# Altium schematic symbol library AK4619VN.SchLib: 1 symbol
Pins are listed as number, name and electrical type; pins without a type are passive.

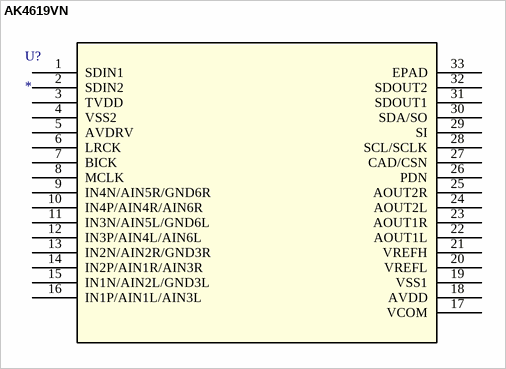
[diagram p0: symbol AK4619VN]

## AK4619VN
designator U?
No Description Available; Mfr_Name: AKM; RefDes: RefDes; Type: Type
footprint AK4619VN_AKM
pins: 1 SDIN1, 2 SDIN2, 3 TVDD, 4 VSS2, 5 AVDRV, 6 LRCK, 7 BICK, 8 MCLK, 9 IN4N/AIN5R/GND6R, 10 IN4P/AIN4R/AIN6R, 11 IN3N/AIN5L/GND6L, 12 IN3P/AIN4L/AIN6L, 13 IN2N/AIN2R/GND3R, 14 IN2P/AIN1R/AIN3R, 15 IN1N/AIN2L/GND3L, 16 IN1P/AIN1L/AIN3L, 17 VCOM, 18 AVDD, 19 VSS1, 20 VREFL, 21 VREFH, 22 AOUT1L, 23 AOUT1R, 24 AOUT2L, 25 AOUT2R, 26 PDN, 27 CAD/CSN, 28 SCL/SCLK, 29 SI, 30 SDA/SO, 31 SDOUT1, 32 SDOUT2, 33 EPAD